# EAGLE library part SFV30R-4STBE1HLF (library SamacSys_Parts)
FFC & FPC Connectors FFC/FPC CONN 0.5mm Source: Datasheet <https://cdn.amphenol-icc.com/media/wysiwyg/files/drawing/10116954.pdf>
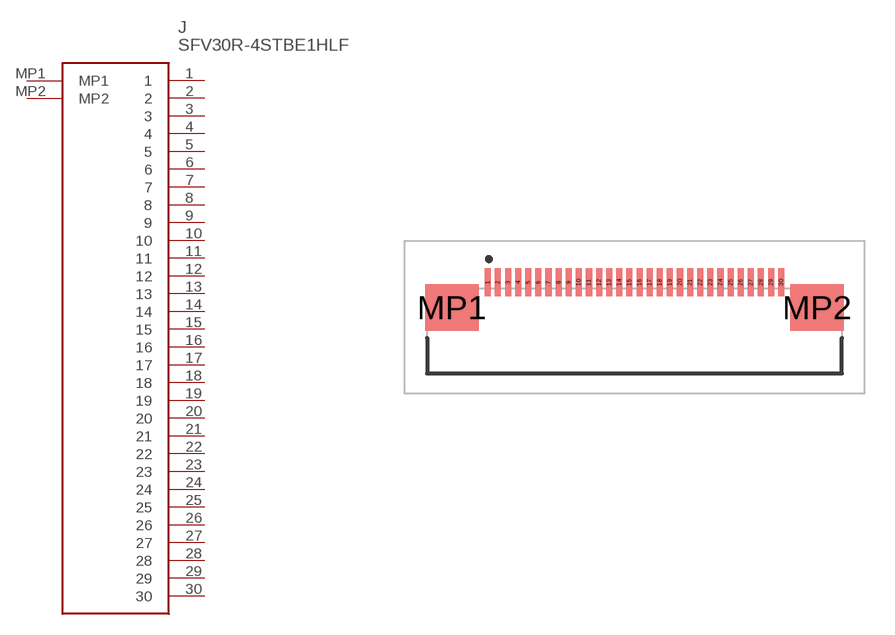
[diagram p1: symbol with the pads of SFV30R4STBE1HLF; footprint SFV30R4STBE1HLF]

Designator prefix J

## SFV30R-4STBE1HLF (DESCRIPTION: FFC & FPC Connectors FFC/FPC CONN 0.5mm; HEIGHT: 2mm; MANUFACTURER_NAME: Amphenol; MANUFACTURER_PART_NUMBER: SFV30R-4STBE1HLF; MOUSER_PART_NUMBER: 649-SFV30R-4STBE1HLF; MOUSER_PRICE-STOCK: https://www.mouser.co.uk/ProductDetail/Amphenol-FCI/SFV30R-4STBE1HLF?qs=SqJKR5MmryfVMDRs%2F3Q1Tw%3D%3D)  [SFV30R4STBE1HLF]
1  1
2  2
3  3
4  4
5  5
6  6
7  7
8  8
9  9
10  10
11  11
12  12
13  13
14  14
15  15
16  16
17  17
18  18
19  19
20  20
21  21
22  22
23  23
24  24
25  25
26  26
27  27
28  28
29  29
30  30
MP1  MP1
MP2  MP2

## Footprint SFV30R4STBE1HLF (pad centres in mm)
SFV30R-4STBE1HLF-2
smd 0.3 x 1.4: 1 -7.25,0; 2 -6.75,0; 3 -6.25,0; 4 -5.75,0; 5 -5.25,0; 6 -4.75,0; 7 -4.25,0; 8 -3.75,0; 9 -3.25,0; 10 -2.75,0; 11 -2.25,0; 12 -1.75,0; 13 -1.25,0; 14 -0.75,0; 15 -0.25,0; 16 0.25,0; 17 0.75,0; 18 1.25,0; 19 1.75,0; 20 2.25,0; 21 2.75,0; 22 3.25,0; 23 3.75,0; 24 4.25,0; 25 4.75,0; 26 5.25,0; 27 5.75,0; 28 6.25,0; 29 6.75,0; 30 7.25,0
smd 2.65 x 2.3: MP1 -9.025,-1.25; MP2 9.025,-1.25